# EAGLE library part TPS54620 (library lightsuits)
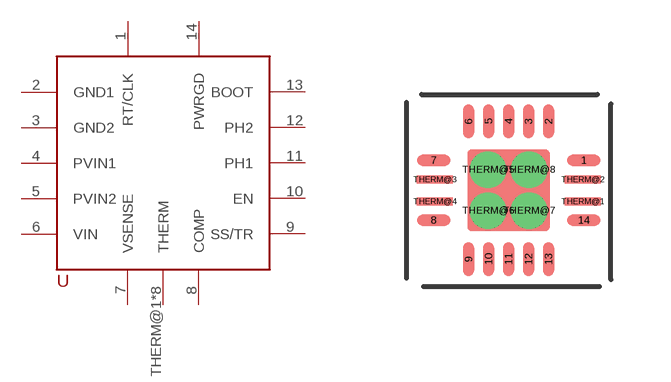
[diagram p3: symbol with the pads of 14-VFQFN; footprint 14-VFQFN]

Designator prefix -

## TPS54620  [14-VFQFN]
1  RT/CLK
2  GND1
3  GND2
4  PVIN1
5  PVIN2
6  VIN
7  VSENSE
8  COMP
9  SS/TR
10  EN
11  PH1
12  PH2
13  BOOT
14  PWRGD
THERM@1  THERM
THERM@2  THERM
THERM@3  THERM
THERM@4  THERM
THERM@5  THERM
THERM@6  THERM
THERM@7  THERM
THERM@8  THERM

## Footprint 14-VFQFN (pad centres in mm)
smd 0.85 x 0.28: 1 1.875,0.75; 7 -1.875,0.75; 8 -1.875,-0.75; 14 1.875,-0.75
smd 0.28 x 0.85: 2 1,1.725; 3 0.5,1.725; 4 0,1.725; 5 -0.5,1.725; 6 -1,1.725; 9 -1,-1.725; 10 -0.5,-1.725; 11 0,-1.725; 12 0.5,-1.725; 13 1,-1.725
smd 0.9 x 0.2: THERM@1 1.85,-0.275; THERM@2 1.85,0.275; THERM@3 -1.85,0.275; THERM@4 -1.85,-0.275
drill 0.406: THERM@5 -0.512,0.512; THERM@6 -0.512,-0.512; THERM@7 0.512,-0.512; THERM@8 0.512,0.512